# Altium schematic symbol library Copy of 136B.SchLib: 10 symbols
Pins are listed as number, name and electrical type; pins without a type are passive.

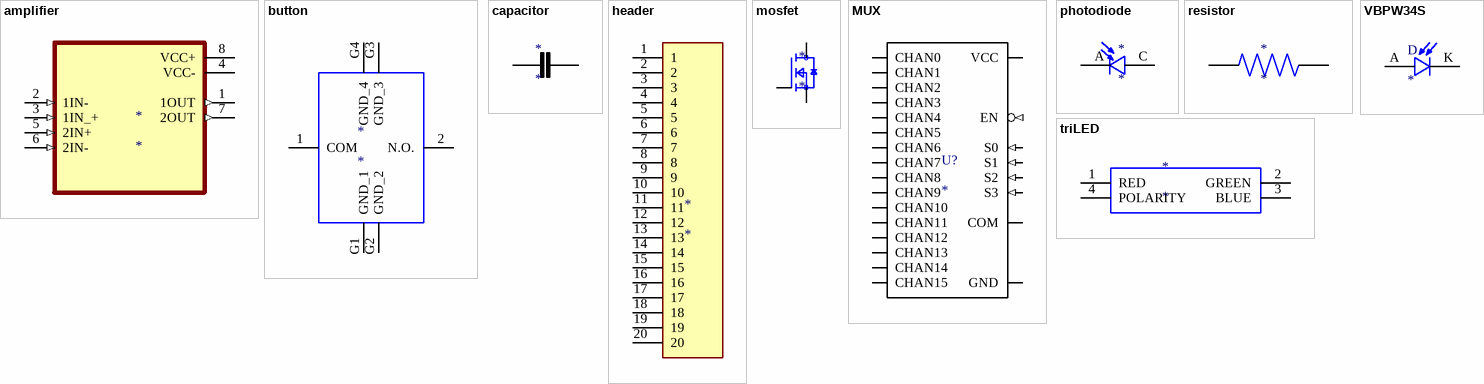
[diagram p0: symbols amplifier to VBPW34S]

## amplifier
designator *
footprint amplifier
pins: 1 1OUT (out), 2 1IN- (in), 3 1IN_+ (in), 4 VCC- (power), 5 2IN+ (in), 6 2IN- (in), 7 2OUT (out), 8 VCC+ (power)

## button
designator *
Tactile Switches Microminiature SMT Top Actuated
footprint button
pins: 1 COM, 2 N.O., G1 GND_1, G2 GND_2, G3 GND_3, G4 GND_4

## capacitor
designator *
footprint capacitor
pins: 1, 2

## header
designator *
footprint header
pins: 1, 2, 3, 4, 5, 6, 7, 8, 9, 10, 11, 12, 13, 14, 15, 16, 17, 18, 19, 20

## mosfet
designator *
pins: 1 S, 2 G, 6 D

## MUX
designator U?
Analog Switch/Analog Multiplexer Single 16:1 24-Pin SSOP T/R
footprint MUX
pins: P1 COM (io), P2 CHAN7 (io), P3 CHAN6 (io), P4 CHAN5 (io), P5 CHAN4 (io), P6 CHAN3 (io), P7 CHAN2 (io), P8 CHAN1 (io), P9 CHAN0 (io), P10 S0 (in), P11 S1 (in), P12 GND (io), P13 S3 (in), P14 S2 (in), P15 EN (in), P16 CHAN15 (io), P17 CHAN14 (io), P18 CHAN13 (io), P19 CHAN12 (io), P20 CHAN11 (io), P21 CHAN10 (io), P22 CHAN9 (io), P23 CHAN8 (io), P24 VCC (io)

## photodiode
designator *
footprint photodiode
pins: A, C

## resistor
designator *
footprint resistor
pins: 1, 2

## triLED
designator *
footprint triLED
pins: 1 RED, 2 GREEN, 3 BLUE, 4 POLARITY

## VBPW34S
designator D
Photodiode 940nm 100ns 130Â° 2-SMD, Gull Wing; MP: VBPW34S; MF: Vishay; Price: None; Value: *; Package: SMD-2 Vishay; SnapEDA_Link: https://www.snapeda.com/parts/VBPW34S/Vishay%20Semiconductor%20Opto%20Division/view-part/139260/?ref=snap; Availability: Unavailable
footprint XDCR_VBPW34S
footprint VBPW34S
pins: A, K C